# Altium footprint library 2021-03-28_18-12-29.PcbLib: 1 footprints
Each footprint in its own frame and in the unit in brackets; x right, y up, seen from the top. Pads: shape width x height; smd on the part's side, far side on the other; paste and mask are expansions set on the pad; w line width, h text height; cw(c..) or ccw(c..) is an arc to the next point about the centre after c.
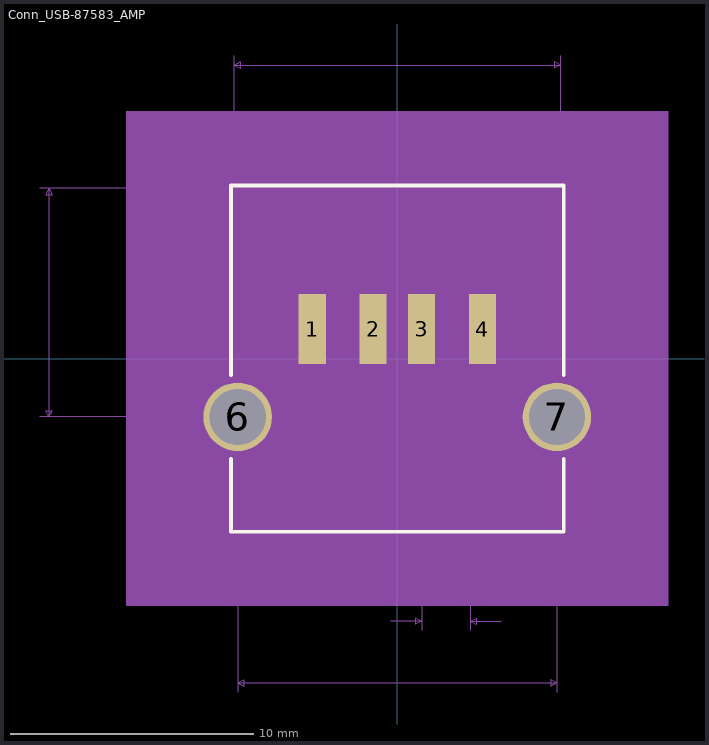
[diagram p0: the footprint, top view; thin cyan lines are the x and y axes]

## Conn_USB-87583_AMP [mm]
pads (6):
  rect 1.12x2.88 smd: 1(-3.492,1.221) 2(-0.992,1.221) 3(1.008,1.221) 4(3.508,1.221)
  round 2.819 hole 2.311: 6(-6.562,-2.387) 7(6.578,-2.387)
Top Overlay:
  lines w0.152: -6.839,-4.108 -6.839,-7.114 6.855,-7.114 6.855,-4.108 ; -6.839,-0.667 -6.839,7.14 6.855,7.14 6.855,-0.667
Mechanical 5:
  region: -11.147,10.188 11.163,10.188 11.163,-10.162 -11.147,-10.162
Mechanical 7:
  lines w0.025: -14.713,-2.387 -6.562,-2.387 -6.562,-13.718 ; -14.713,7.013 -6.712,7.013 ; -6.712,12.474 -6.712,7.013 ; -0.262,-10.797 1.008,-10.797 ; 0.008,7.013 9.649,7.013 -6.712,7.013 ; 1.008,-11.178 1.008,7.013 ; 3.008,-11.178 3.008,7.013 ; 4.278,-10.797 3.008,-10.797 ; 6.578,-13.718 6.578,-2.387 ; 6.728,7.013 6.728,12.474 ; 9.268,5.743 9.268,7.013 ; 9.268,8.283 9.268,7.013 ; -14.332,-2.387 -14.332,7.013 ; -14.332,-2.387 -14.459,-2.133 -14.205,-2.133 -14.332,-2.387 ; -14.332,7.013 -14.459,6.759 -14.205,6.759 -14.332,7.013 ; -6.712,12.093 6.728,12.093 ; -6.712,12.093 -6.458,12.22 -6.458,11.966 -6.712,12.093 ; -6.562,-13.337 6.578,-13.337 ; -6.562,-13.337 -6.308,-13.21 -6.308,-13.464 -6.562,-13.337 ; 1.008,-10.797 0.754,-10.67 0.754,-10.924 1.008,-10.797 ; 3.008,-10.797 3.262,-10.67 3.262,-10.924 3.008,-10.797 ; 6.578,-13.337 6.324,-13.21 6.324,-13.464 6.578,-13.337 ; 6.728,12.093 6.474,12.22 6.474,11.966 6.728,12.093 ; 9.268,7.013 9.141,7.267 9.395,7.267 9.268,7.013 ; 9.268,7.013 9.141,6.759 9.395,6.759 9.268,7.013
  text "Default Padstyle: RX44p09Y113p39D0T" at -11.104,-17.147 h1.27
  text "1st Mounting Padstyle: EX111Y111D91P" at -11.422,-19.687 h1.27
  text "Alt 1 Padstyle: OX60Y90D30P" at -8.564,-29.847 h1.27
  text "Alt 2 Padstyle: OX90Y60D30P" at -8.564,-32.387 h1.27
  text "0.079in/2mm" at 0.262,-11.94 h0.64
  text "0.517in/13.14mm" at -2.373,-14.48 h0.64
  text "0.529in/13.44mm" at -2.373,12.601 h0.64
  text "0.37in/9.4mm" at -18.65,1.995 h0.64
  text "-0.228in/-5.791mm" at 9.776,9.591 h0.64
Mechanical 13:
  lines w0.025: -3.627,-6.987 -2.992,-8.257 -2.357,-6.987 ; -6.712,-6.987 6.728,-6.987 6.728,7.013 -6.712,7.013 -6.712,-6.987
Mechanical 15:
  region: 8.242,7.267 8.242,-7.241 -8.226,-7.241 -8.226,7.267
  region: 6.728,7.013 6.728,-6.987 -6.712,-6.987 -6.712,7.013
  lines w0.152: -8.226,-7.241 -8.226,7.267 8.242,7.267 8.242,-7.241 -8.226,-7.241 ; -6.712,-6.987 -6.712,7.013 6.728,7.013 6.728,-6.987 -6.712,-6.987
3D body: height 0.25, standoff 0, extent 0,0 0.254,0.254